# EAGLE library part RELAY2 (library DSDEagleLibrary)
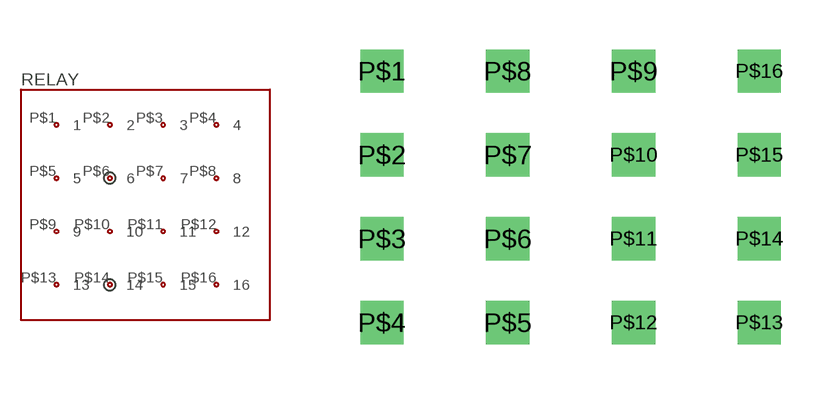
[diagram p48: symbol with the pads of RELAY2; footprint RELAY2]

Designator prefix RELAY

## RELAY2  [RELAY2]
P$1  1
P$2  2
P$3  3
P$4  4
P$5  5
P$6  6
P$7  7
P$8  8
P$9  9
P$10  10
P$11  11
P$12  12
P$13  13
P$14  14
P$15  15
P$16  16

## Footprint RELAY2 (pad centres in mm)
drill 0.8 square: P$1 0,10.16; P$2 0,7.62; P$3 0,5.08; P$4 0,2.54; P$5 3.81,2.54; P$6 3.81,5.08; P$7 3.81,7.62; P$8 3.81,10.16; P$9 7.62,10.16; P$10 7.62,7.62; P$11 7.62,5.08; P$12 7.62,2.54; P$13 11.43,2.54; P$14 11.43,5.08; P$15 11.43,7.62; P$16 11.43,10.16